# Altium schematic symbol library LED_0805_RED.SchLib: 1 symbol
Pins are listed as number, name and electrical type; pins without a type are passive.

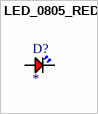
[diagram p0: symbol LED_0805_RED]

## LED_0805_RED
designator D?
20mA 230mcd Colorless Transparent Lens Positive Stick 615nm~630nm Red 120° 2.3V 0805 LED Indication - Discrete ROHS; Manufacturer: XINGLIGHT; Manufacturer Part: XL-2012SURC; Forward Current: 20mA; Forward Voltage: 2.3V; ComponentLink1Description: Datasheet; ComponentLink1URL: https://www.lcsc.com/datasheet/lcsc_datasheet_2504101957_XINGLIGHT-XL-2012SURC_C965812.pdf
footprint LED_0805_RED
pins: 1, 2